# EAGLE library part OKL-T_6-W12P-C (library OKL-T_6-W12P-C)
MURATA POWER SOLUTIONS - OKL-T/6-W12P-C - DC-DC CONVERTER, 0.591V TO 5.5V, MODULE Source: Datasheet <https://www.murata.com/products/productdata/8807038255134/okl-t6-w12.pdf?1583754815000>
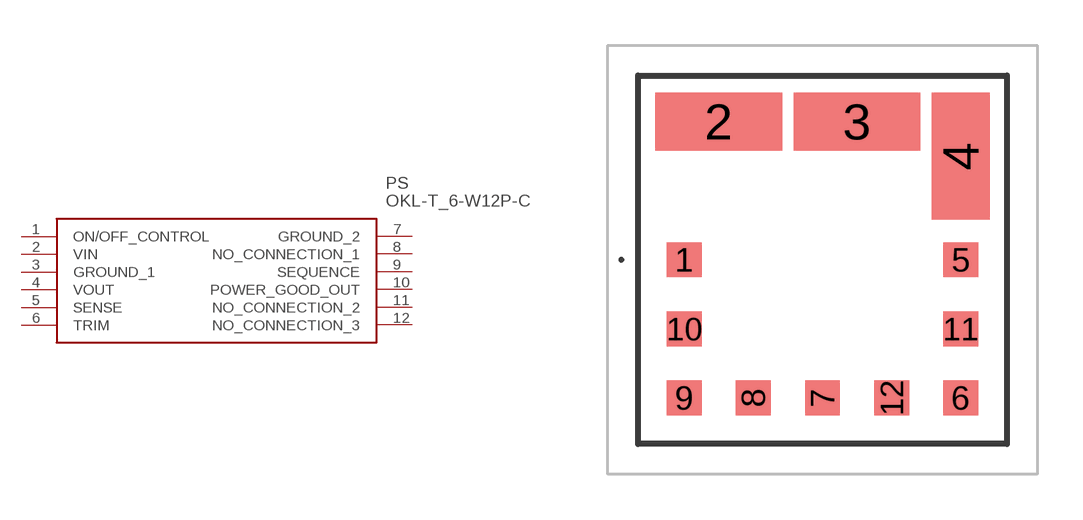
[diagram p0: symbol with the pads of OKLT6W12PC; footprint OKLT6W12PC]

Designator prefix PS

## OKL-T_6-W12P-C (Description: MURATA POWER SOLUTIONS - OKL-T/6-W12P-C - DC-DC CONVERTER, 0.591V TO 5.5V, MODULE; Height: 7.2mm; Manufacturer_Name: Murata Electronics; Manufacturer_Part_Number: OKL-T/6-W12P-C; Mouser_Part_Number: 580-OKL-T/6-W12P-C; Mouser_Price-Stock: https://www.mouser.co.uk/ProductDetail/Murata-Power-Solutions/OKL-T-6-W12P-C?qs=CxV9Ey7RZVdXGDAP%2FweYNg%3D%3D)  [OKLT6W12PC]
1  ON/OFF_CONTROL
2  VIN
3  GROUND_1
4  VOUT
5  SENSE
6  TRIM
7  GROUND_2
8  NO_CONNECTION_1
9  SEQUENCE
10  POWER_GOOD_OUT
11  NO_CONNECTION_2
12  NO_CONNECTION_3

## Footprint OKLT6W12PC (pad centres in mm)
OKL-T/3-W12_2024
smd 1.145 x 1.145: 1 -4.57,0; 5 4.57,0; 6 4.57,-4.57; 7 0,-4.57; 8 -2.29,-4.57; 9 -4.57,-4.57; 10 -4.57,-2.29; 11 4.57,-2.29; 12 2.29,-4.57
smd 4.19 x 1.905: 2 -3.43,4.57; 3 1.14,4.57
smd 1.905 x 4.19: 4 4.57,3.43